# EAGLE library part SILICON_LABS_C8051F350-GQ (library 3D_MIG_Controller)
MC-8B-C8051F350-SQ32
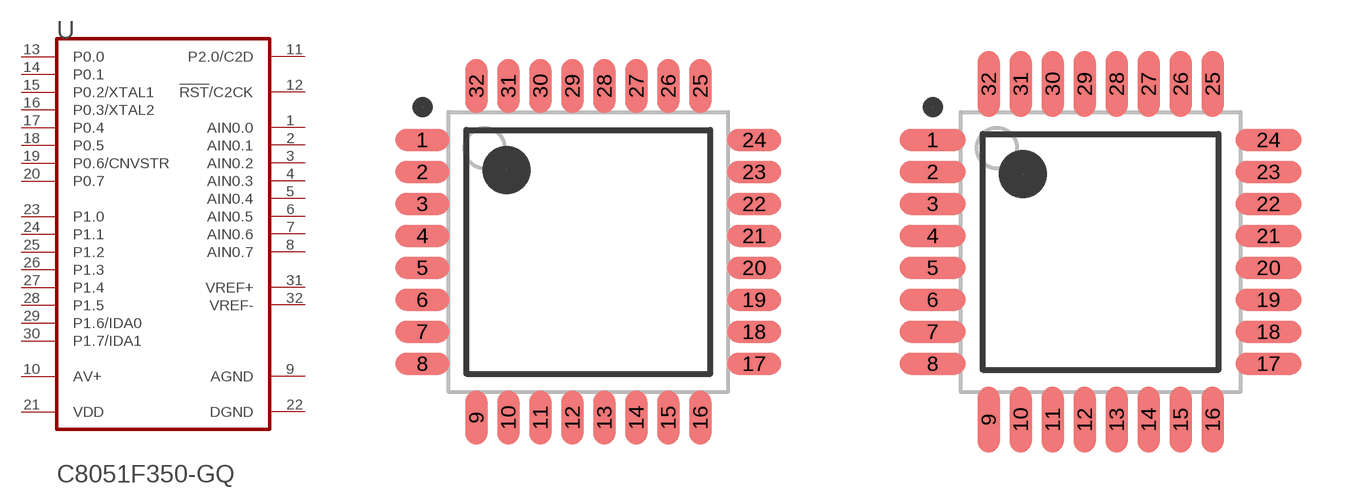
[diagram p68: symbol with the pads of SILICON_LABS_C8051F350-GQ_0; footprints SILICON_LABS_C8051F350-GQ_0, SILICON_LABS_C8051F350-GQ_1]

Designator prefix U

## SILICON_LABS_C8051F350-GQSILICON_LABS_C8051F350-GQ_0_0 (CIIVA_IDS: 1203194; COMPONENT_LINK_1_DESCRIPTION: Manufacturer Link; COMPONENT_LINK_1_URL: http://www.silabs.com; DATASHEET: http://www.silabs.com/Support%20Documents/TechnicalDocs/C8051F35x.pdf; DATASHEET_VERSION: rev1.1, May-2007; FOOTPRINT_VARIANT_NAME_0: Level C; FOOTPRINT_VARIANT_NAME_1: Level B; FOOTPRINT_VARIANT_NAME_2: Level A; IMPORTED: yes; IMPORTED_FROM: vault; IMPORT_TS: 1521846147; MF: Silicon Labs; MPN: C8051F350-GQ; PACKAGE: LQFP-32; PACKAGE_DESCRIPTION: 32-Pin Thin Quad Flat Pack, 7 x 7 x 1.4 mm Body, 0.8 mm Pitch; PACKAGE_VERSION: 2007; PREFIX: U; RELEASE_DATE: 1316160815; VAULT_GUID: 9261A95B-ECF6-4F5A-A7B5-F615F036E093; VAULT_REVISION: A4298A9B-E721-46AA-8EF5-68061D50DFE6)  [SILICON_LABS_C8051F350-GQ_0]
1  AIN0.0  in
2  AIN0.1  in
3  AIN0.2  in
4  AIN0.3  in
5  AIN0.4  in
6  AIN0.5  in
7  AIN0.6  in
8  AIN0.7  in
9  AGND  pwr
10  AV+  pwr
11  P2.0/C2D
12  !RST!/C2CK
13  P0.0
14  P0.1
15  P0.2/XTAL1
16  P0.3/XTAL2
17  P0.4
18  P0.5
19  P0.6/CNVSTR
20  P0.7
21  VDD  pwr
22  DGND  pwr
23  P1.0
24  P1.1
25  P1.2
26  P1.3
27  P1.4
28  P1.5
29  P1.6/IDA0
30  P1.7/IDA1
31  VREF+
32  VREF-

## SILICON_LABS_C8051F350-GQSILICON_LABS_C8051F350-GQ_0_1 (CIIVA_IDS: 1203194; COMPONENT_LINK_1_DESCRIPTION: Manufacturer Link; COMPONENT_LINK_1_URL: http://www.silabs.com; DATASHEET: http://www.silabs.com/Support%20Documents/TechnicalDocs/C8051F35x.pdf; DATASHEET_VERSION: rev1.1, May-2007; FOOTPRINT_VARIANT_NAME_0: Level C; FOOTPRINT_VARIANT_NAME_1: Level B; FOOTPRINT_VARIANT_NAME_2: Level A; IMPORTED: yes; IMPORTED_FROM: vault; IMPORT_TS: 1521846147; MF: Silicon Labs; MPN: C8051F350-GQ; PACKAGE: LQFP-32; PACKAGE_DESCRIPTION: 32-Pin Thin Quad Flat Pack, 7 x 7 x 1.4 mm Body, 0.8 mm Pitch; PACKAGE_VERSION: 2007; PREFIX: U; RELEASE_DATE: 1316160815; VAULT_GUID: 9261A95B-ECF6-4F5A-A7B5-F615F036E093; VAULT_REVISION: A4298A9B-E721-46AA-8EF5-68061D50DFE6)  [SILICON_LABS_C8051F350-GQ_1]
Pads as for SILICON_LABS_C8051F350-GQ_0

## SILICON_LABS_C8051F350-GQSILICON_LABS_C8051F350-GQ_0_2 (CIIVA_IDS: 1203194; COMPONENT_LINK_1_DESCRIPTION: Manufacturer Link; COMPONENT_LINK_1_URL: http://www.silabs.com; DATASHEET: http://www.silabs.com/Support%20Documents/TechnicalDocs/C8051F35x.pdf; DATASHEET_VERSION: rev1.1, May-2007; FOOTPRINT_VARIANT_NAME_0: Level C; FOOTPRINT_VARIANT_NAME_1: Level B; FOOTPRINT_VARIANT_NAME_2: Level A; IMPORTED: yes; IMPORTED_FROM: vault; IMPORT_TS: 1521846147; MF: Silicon Labs; MPN: C8051F350-GQ; PACKAGE: LQFP-32; PACKAGE_DESCRIPTION: 32-Pin Thin Quad Flat Pack, 7 x 7 x 1.4 mm Body, 0.8 mm Pitch; PACKAGE_VERSION: 2007; PREFIX: U; RELEASE_DATE: 1316160815; VAULT_GUID: 9261A95B-ECF6-4F5A-A7B5-F615F036E093; VAULT_REVISION: A4298A9B-E721-46AA-8EF5-68061D50DFE6)  [SILICON_LABS_C8051F350-GQ_2]
Pads as for SILICON_LABS_C8051F350-GQ_0

## Footprint SILICON_LABS_C8051F350-GQ_0 (pad centres in mm)
MC-8B-C8051F350-SQ32
smd 1.35 x 0.55: 1 -4.15,2.8; 2 -4.15,2; 3 -4.15,1.2; 4 -4.15,0.4; 5 -4.15,-0.4; 6 -4.15,-1.2; 7 -4.15,-2; 8 -4.15,-2.8; 17 4.15,-2.8; 18 4.15,-2; 19 4.15,-1.2; 20 4.15,-0.4; 21 4.15,0.4; 22 4.15,1.2; 23 4.15,2; 24 4.15,2.8
smd 0.55 x 1.35: 9 -2.8,-4.15; 10 -2,-4.15; 11 -1.2,-4.15; 12 -0.4,-4.15; 13 0.4,-4.15; 14 1.2,-4.15; 15 2,-4.15; 16 2.8,-4.15; 25 2.8,4.15; 26 2,4.15; 27 1.2,4.15; 28 0.4,4.15; 29 -0.4,4.15; 30 -1.2,4.15; 31 -2,4.15; 32 -2.8,4.15

## Footprint SILICON_LABS_C8051F350-GQ_1 (pad centres in mm)
MC-8B-C8051F350-SQ32
smd 1.65 x 0.55: 1 -4.2,2.8; 2 -4.2,2; 3 -4.2,1.2; 4 -4.2,0.4; 5 -4.2,-0.4; 6 -4.2,-1.2; 7 -4.2,-2; 8 -4.2,-2.8; 17 4.2,-2.8; 18 4.2,-2; 19 4.2,-1.2; 20 4.2,-0.4; 21 4.2,0.4; 22 4.2,1.2; 23 4.2,2; 24 4.2,2.8
smd 0.55 x 1.65: 9 -2.8,-4.2; 10 -2,-4.2; 11 -1.2,-4.2; 12 -0.4,-4.2; 13 0.4,-4.2; 14 1.2,-4.2; 15 2,-4.2; 16 2.8,-4.2; 25 2.8,4.2; 26 2,4.2; 27 1.2,4.2; 28 0.4,4.2; 29 -0.4,4.2; 30 -1.2,4.2; 31 -2,4.2; 32 -2.8,4.2

## Footprint SILICON_LABS_C8051F350-GQ_2 (pad centres in mm)
MC-8B-C8051F350-SQ32
smd 1.95 x 0.6: 1 -4.25,2.8; 2 -4.25,2; 3 -4.25,1.2; 4 -4.25,0.4; 5 -4.25,-0.4; 6 -4.25,-1.2; 7 -4.25,-2; 8 -4.25,-2.8; 17 4.25,-2.8; 18 4.25,-2; 19 4.25,-1.2; 20 4.25,-0.4; 21 4.25,0.4; 22 4.25,1.2; 23 4.25,2; 24 4.25,2.8
smd 0.6 x 1.95: 9 -2.8,-4.25; 10 -2,-4.25; 11 -1.2,-4.25; 12 -0.4,-4.25; 13 0.4,-4.25; 14 1.2,-4.25; 15 2,-4.25; 16 2.8,-4.25; 25 2.8,4.25; 26 2,4.25; 27 1.2,4.25; 28 0.4,4.25; 29 -0.4,4.25; 30 -1.2,4.25; 31 -2,4.25; 32 -2.8,4.25